# Altium integrated library ADV7611WBSWZ.IntLib: 1 symbol
Pins are listed as number, name and electrical type; pins without a type are passive.

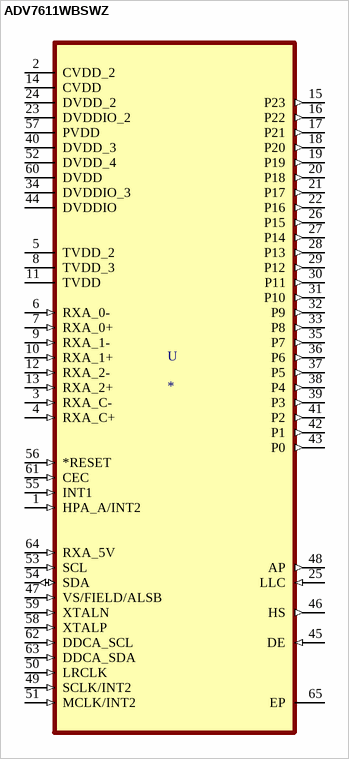
[diagram p0: symbol ADV7611WBSWZ]

## ADV7611WBSWZ
designator U
HDMI Receiver 1RX Automotive 64-Pin LQFP EP Tray; MF: Analog Devices; MP: ADV7611WBSWZ; Availability: Unavailable; Price: None; SnapEDA_Link: https://www.snapeda.com/parts/ADV7611WBSWZ/Analog%20Devices/view-part/886883/?ref=snap; Package: LQFP -64 Analog Devices; Value: *
footprint QFP50P1200X1200X160-65N
pins: 1 HPA_A/INT2 (in), 2 CVDD_2 (power), 3 RXA_C- (in), 4 RXA_C+ (in), 5 TVDD_2 (power), 6 RXA_0- (in), 7 RXA_0+ (in), 8 TVDD_3 (power), 9 RXA_1- (in), 10 RXA_1+ (in), 11 TVDD (power), 12 RXA_2- (in), 13 RXA_2+ (in), 14 CVDD (power), 15 P23 (out), 16 P22 (out), 17 P21 (out), 18 P20 (out), 19 P19 (out), 20 P18 (out), 21 P17 (out), 22 P16 (out), 23 DVDDIO_2 (power), 24 DVDD_2 (power), 25 LLC (in), 26 P15 (out), 27 P14 (out), 28 P13 (out), 29 P12 (out), 30 P11 (out), 31 P10 (out), 32 P9 (out), 33 P8 (out), 34 DVDDIO_3 (power), 35 P7 (out), 36 P6 (out), 37 P5 (out), 38 P4 (out), 39 P3 (out), 40 DVDD_3 (power), 41 P2 (out), 42 P1 (out), 43 P0 (out), 44 DVDDIO (power), 45 DE (in), 46 HS (out), 47 VS/FIELD/ALSB (in), 48 AP (out), 49 SCLK/INT2 (in), 50 LRCLK (in), 51 MCLK/INT2 (in), 52 DVDD_4 (power), 53 SCL (in), 54 SDA (io), 55 INT1 (in), 56 *RESET (in), 57 PVDD (power), 58 XTALP (in), 59 XTALN (in), 60 DVDD (power), 61 CEC (in), 62 DDCA_SCL (in), 63 DDCA_SDA (in), 64 RXA_5V (in), 65 EP